# EAGLE library part HK19F_5V_DPDT_RELAY (library Puffin)
Subminiture DPDT DIP relay
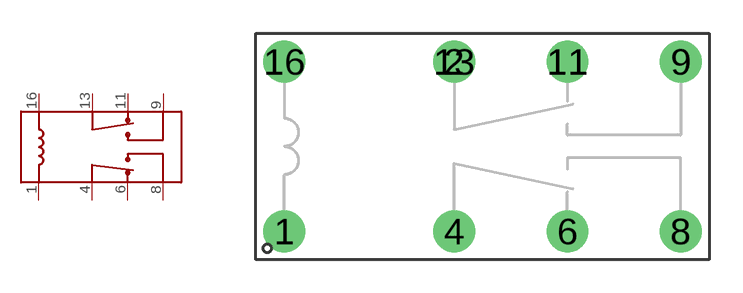
[diagram p2: symbol with the pads of DIP16-RELAY; footprint DIP16-RELAY]

Designator prefix -

## HK19F_5V_DPDT_RELAY  [DIP16-RELAY]
1  L1
4  C1
6  NC1
8  NO1
9  NO2
11  NC2
13  C2
16  L2

## Footprint DIP16-RELAY (pad centres in mm)
drill 1.016 pad 1.88: 1 -8.89,-3.81; 2 -1.27,3.81; 4 -1.27,-3.81; 6 3.81,-3.81; 8 8.89,-3.81; 9 8.89,3.81; 11 3.81,3.81; 13 -1.27,3.81; 16 -8.89,3.81